# Altium schematic symbol library LM2940IMPX-5.0-NOPB 5V Regulator.SchLib: 1 symbol
Pins are listed as number, name and electrical type; pins without a type are passive.

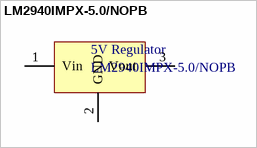
[diagram p0: symbol LM2940IMPX-5.0/NOPB]

## LM2940IMPX-5.0/NOPB
designator 5V Regulator
LM2940x 1-A Low Dropout Regulator
footprint SOT230P700X180-4N (SOT223, 4-Leads, Body 6.50x7.00mm (avg), Pitch 2.30mm, IPC Medium Density)
pins: 1 Vin, 2 GND, 3 Vout